# Altium footprint library 2ISP.PcbLib: 2 footprints
Each footprint in its own frame and in the unit in brackets; x right, y up, seen from the top. Pads: shape width x height; smd on the part's side, far side on the other; paste and mask are expansions set on the pad; w line width, h text height; cw(c..) or ccw(c..) is an arc to the next point about the centre after c.
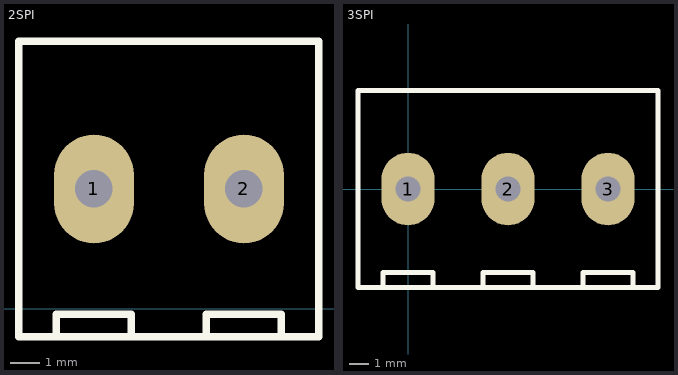
[diagram p0: the footprints below, top view; thin cyan lines are the x and y axes]

## 2SPI [mil]
pads (2):
  oval 106x145 hole 50: 1(1265,160) 2(1465,160)
Top Overlay:
  lines w10: 1165,-36.85 1565,-36.85 ; 1165,-36 1165,356.85 1565,356.85 1565,-36 ; 1215,-36.85 1215,-6.85 1315,-6.85 1315,-36.85 ; 1415,-36.85 1415,-6.85 1515,-6.85 1515,-36.85

## 3SPI [mil]
pads (3):
  oval 106x145 hole 50: 1(0,0) 2(200,0) 3(400,0)
Top Overlay:
  lines w10: -50,-196.85 -50,-166.85 50,-166.85 50,-196.85 ; 150,-196.85 150,-166.85 250,-166.85 250,-196.85 ; 350,-196.85 350,-166.85 450,-166.85 450,-196.85 ; -100,-196.85 -100,196.85 500,196.85 500,-196.85 -100,-196.85